# EAGLE library part TSC2003 (library X893)
TSC2003 <http://www.ti.com/lit/ds/symlink/tsc2003.pdf>
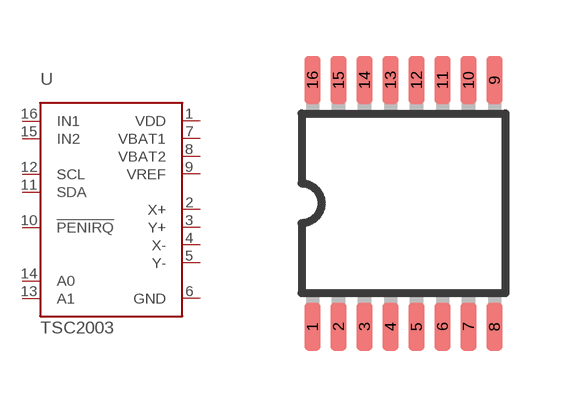
[diagram p240: symbol with the pads of TSSOP16; footprint TSSOP16]

Designator prefix U

## TSC2003  [TSSOP16]
1  VDD  in
2  X+  in
3  Y+  in
4  X-  in
5  Y-  in
6  GND  in
7  VBAT1  in
8  VBAT2  in
9  VREF  in
10  !PENIRQ  in
11  SDA  in
12  SCL  in
13  A1  in
14  A0  in
15  IN2  in
16  IN1  in

## Footprint TSSOP16 (pad centres in mm)
TSOP16 thin small outline package
smd 0.4 x 1.2: 1 -2.275,-3.087; 2 -1.625,-3.087; 3 -0.975,-3.087; 4 -0.325,-3.087; 5 0.325,-3.087; 6 0.975,-3.087; 7 1.625,-3.087; 8 2.275,-3.087; 9 2.275,3.087; 10 1.625,3.087; 11 0.975,3.087; 12 0.325,3.087; 13 -0.325,3.087; 14 -0.975,3.087; 15 -1.625,3.087; 16 -2.275,3.087